# EAGLE library part 66201221022 (library Wurth_Elektronik_Electromechanic_Wire_to_Board_Connectors_rev15c)
WR-MPC3 3.00mm Male Dual Row Angled Header with Plastic Pegs, 12 Pins=>Code : Con_WTB-MPC3_2_PCB_THT66201221022 <http://katalog.we-online.de/media/thumbs2/eican/thb_Con_WTB-MPC3_2_PCB_THT86220xx21022_pf2.jpg> Details see: http://katalog.we-online.de/en/em/662_0xx_210_22 Created 2014-06-06, Karrer Zheng 2014 (C) Würth Elektronik
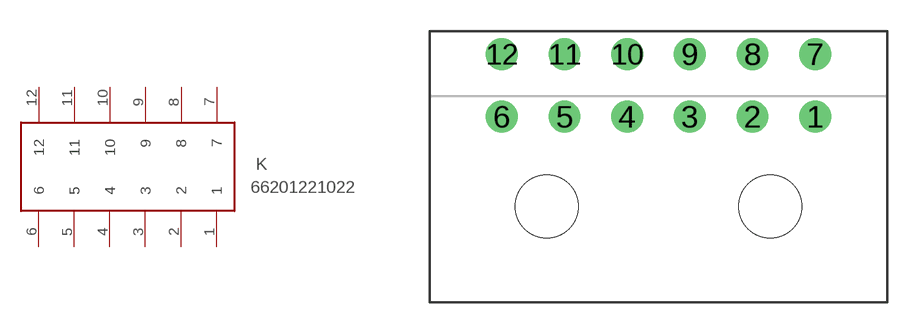
[diagram p360: symbol with the pads of 66201221022; footprint 66201221022]

Designator prefix K

## 66201221022  [66201221022]
1  1
2  2
3  3
4  4
5  5
6  6
7  7
8  8
9  9
10  10
11  11
12  12

## Footprint 66201221022 (pad centres in mm)
WR-MPC3 3.00mm Male Dual Row Angled Header with Plastic Pegs, 12 Pins
drill 1.02: 1 0,-1.5; 2 -3,-1.5; 3 -6,-1.5; 4 -9,-1.5; 5 -12,-1.5; 6 -15,-1.5; 7 0,1.5; 8 -3,1.5; 9 -6,1.5; 10 -9,1.5; 11 -12,1.5; 12 -15,1.5
hole 3 at -2.15,-5.8
hole 3 at -12.85,-5.8